# Altium integrated library Zarlink Comm Phase Locked Loop.IntLib: 4 symbols
Pins are listed as number, name and electrical type; pins without a type are passive.

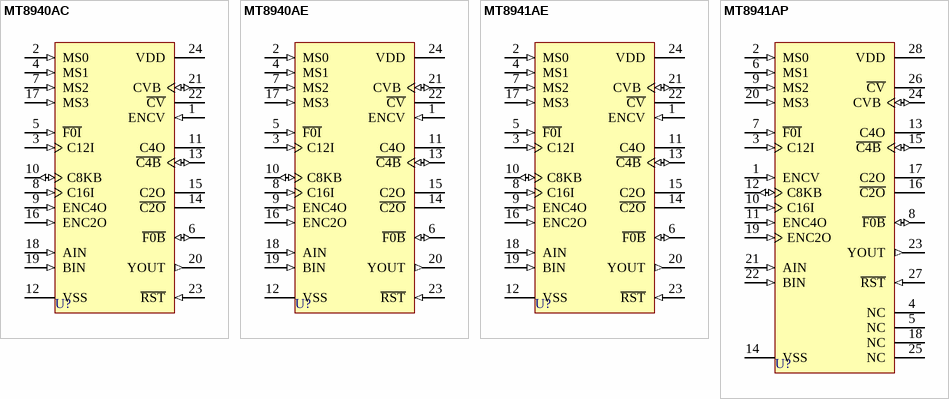
[diagram p0: symbols MT8940AC to MT8941AP]

## MT8940AC
designator U?
T1/CEPT Digital Trunk PLL; Published: 8-Jun-2000; LatestRevisionDate: 17-Jul-2002; LatestRevisionNote: Re-released for DXP Platform.; DatasheetVersion: Issue 7 July 1993; PackageVersion: 1995; PackageReference: CDIP24; Publisher: Altium Limited; PackageDescription: DIP; 24 Leads; Row Spacing 15.24 mm; Pitch 2.54 mm; Code_JEDEC: MS-011-AA; ComponentLink1Description: Manufacturer Link; ComponentLink1URL: http://www.zarlink.com/; ComponentLink2Description: Datasheet; ComponentLink2URL: http://assets.zarlink.com/DS/zarlink_MT8940_MAR_97.pdf
footprint CDIP24 (DIP; 24 Leads; Row Spacing 15.24 mm; Pitch 2.54 mm)
pins: 1 ENCV (in), 2 MS0 (in), 3 C12I (in), 4 MS1 (in), 5 ~{F0I} (in), 6 ~{F0B} (io), 7 MS2 (in), 8 C16I (in), 9 ENC4O (in), 10 C8KB (io), 11 C4O (hiz), 12 VSS (power), 13 ~{C4B} (io), 14 ~{C2O} (hiz), 15 C2O (hiz), 16 ENC2O (in), 17 MS3 (in), 18 AIN (in), 19 BIN (in), 20 YOUT (out), 21 CVB (io), 22 ~{CV} (hiz), 23 ~{RST} (in), 24 VDD (power)

## MT8940AE
designator U?
T1/CEPT Digital Trunk PLL; Published: 8-Jun-2000; LatestRevisionDate: 17-Jul-2002; LatestRevisionNote: Re-released for DXP Platform.; DatasheetVersion: Issue 8 March 1997; PackageVersion: 1997; PackageReference: PDIP24; Publisher: Altium Limited; PackageDescription: DIP; 24 Leads; Row Spacing 15.24 mm; Pitch 2.54 mm; Code_JEDEC: MS-011-AA; ComponentLink1Description: Manufacturer Link; ComponentLink1URL: http://www.zarlink.com/; ComponentLink2Description: Datasheet; ComponentLink2URL: http://assets.zarlink.com/DS/zarlink_MT8940_MAR_97.pdf
footprint PDIP24 (DIP; 24 Leads; Row Spacing 15.24 mm; Pitch 2.54 mm)
pins: 1 ENCV (in), 2 MS0 (in), 3 C12I (in), 4 MS1 (in), 5 ~{F0I} (in), 6 ~{F0B} (io), 7 MS2 (in), 8 C16I (in), 9 ENC4O (in), 10 C8KB (io), 11 C4O (hiz), 12 VSS (power), 13 ~{C4B} (io), 14 ~{C2O} (hiz), 15 C2O (hiz), 16 ENC2O (in), 17 MS3 (in), 18 AIN (in), 19 BIN (in), 20 YOUT (out), 21 CVB (io), 22 ~{CV} (hiz), 23 ~{RST} (in), 24 VDD (power)

## MT8941AE
designator U?
Advanced T1/CEPT Digital Trunk PLL; Published: 8-Jun-2000; LatestRevisionDate: 17-Jul-2002; LatestRevisionNote: Re-released for DXP Platform.; DatasheetVersion: Issue 5 July 1993; PackageVersion: 1997; PackageReference: PDIP24; Publisher: Altium Limited; PackageDescription: DIP; 24 Leads; Row Spacing 15.24 mm; Pitch 2.54 mm; Code_JEDEC: MS-011-AA; ComponentLink1Description: Manufacturer Link; ComponentLink1URL: http://www.zarlink.com/; ComponentLink2Description: Datasheet; ComponentLink2URL: http://assets.zarlink.com/DS/zarlink_MT8941B_JUL_05.pdf
footprint PDIP24 (DIP; 24 Leads; Row Spacing 15.24 mm; Pitch 2.54 mm)
pins: 1 ENCV (in), 2 MS0 (in), 3 C12I (in), 4 MS1 (in), 5 ~{F0I} (in), 6 ~{F0B} (io), 7 MS2 (in), 8 C16I (in), 9 ENC4O (in), 10 C8KB (io), 11 C4O (hiz), 12 VSS (power), 13 ~{C4B} (io), 14 ~{C2O} (hiz), 15 C2O (hiz), 16 ENC2O (in), 17 MS3 (in), 18 AIN (in), 19 BIN (in), 20 YOUT (out), 21 CVB (io), 22 ~{CV} (hiz), 23 ~{RST} (in), 24 VDD (power)

## MT8941AP
designator U?
Advanced T1/CEPT Digital Trunk PLL; Published: 8-Jun-2000; LatestRevisionDate: 13-Apr-2006; LatestRevisionNote: IPC-7351 Footprint Added.; DatasheetVersion: Issue 5 July 1993; PackageVersion: 1997; PackageReference: PLCC28; Publisher: Altium Limited; PackageDescription: 28-Pin Leaded Chip Carrier 1.27 mm Pitch; Code_IPC: PLCC-28; ComponentLink1Description: Manufacturer Link; ComponentLink1URL: http://www.zarlink.com/; ComponentLink2Description: Datasheet; ComponentLink2URL: http://assets.zarlink.com/DS/zarlink_MT8941B_JUL_05.pdf
footprint PLCC28_N (Leaded Chip Carrier, 28-Leads, Body 11.5x11.5mm, Pitch 1.27mm, IPC Medium Density)
footprint PLCC28_L (Leaded Chip Carrier, 28-Leads, Body 11.5x11.5mm, Pitch 1.27mm, IPC High Density)
footprint PLCC28_M (Leaded Chip Carrier, 28-Leads, Body 11.5x11.5mm, Pitch 1.27mm, IPC Low Density)
pins: 1 ENCV (in), 2 MS0 (in), 3 C12I (in), 4 NC, 5 NC, 6 MS1 (in), 7 ~{F0I} (in), 8 ~{F0B} (io), 9 MS2 (in), 10 C16I (in), 11 ENC4O (in), 12 C8KB (io), 13 C4O (hiz), 14 VSS (power), 15 ~{C4B} (io), 16 ~{C2O} (hiz), 17 C2O (hiz), 18 NC, 19 ENC2O (in), 20 MS3 (in), 21 AIN (in), 22 BIN (in), 23 YOUT (out), 24 CVB (io), 25 NC, 26 ~{CV} (hiz), 27 ~{RST} (in), 28 VDD (power)